# Altium footprint library PcbLib1.PcbLib: 18 footprints (part 1 of 2)
Each footprint in its own frame and in the unit in brackets; x right, y up, seen from the top. Pads: shape width x height; smd on the part's side, far side on the other; paste and mask are expansions set on the pad; w line width, h text height; cw(c..) or ccw(c..) is an arc to the next point about the centre after c.
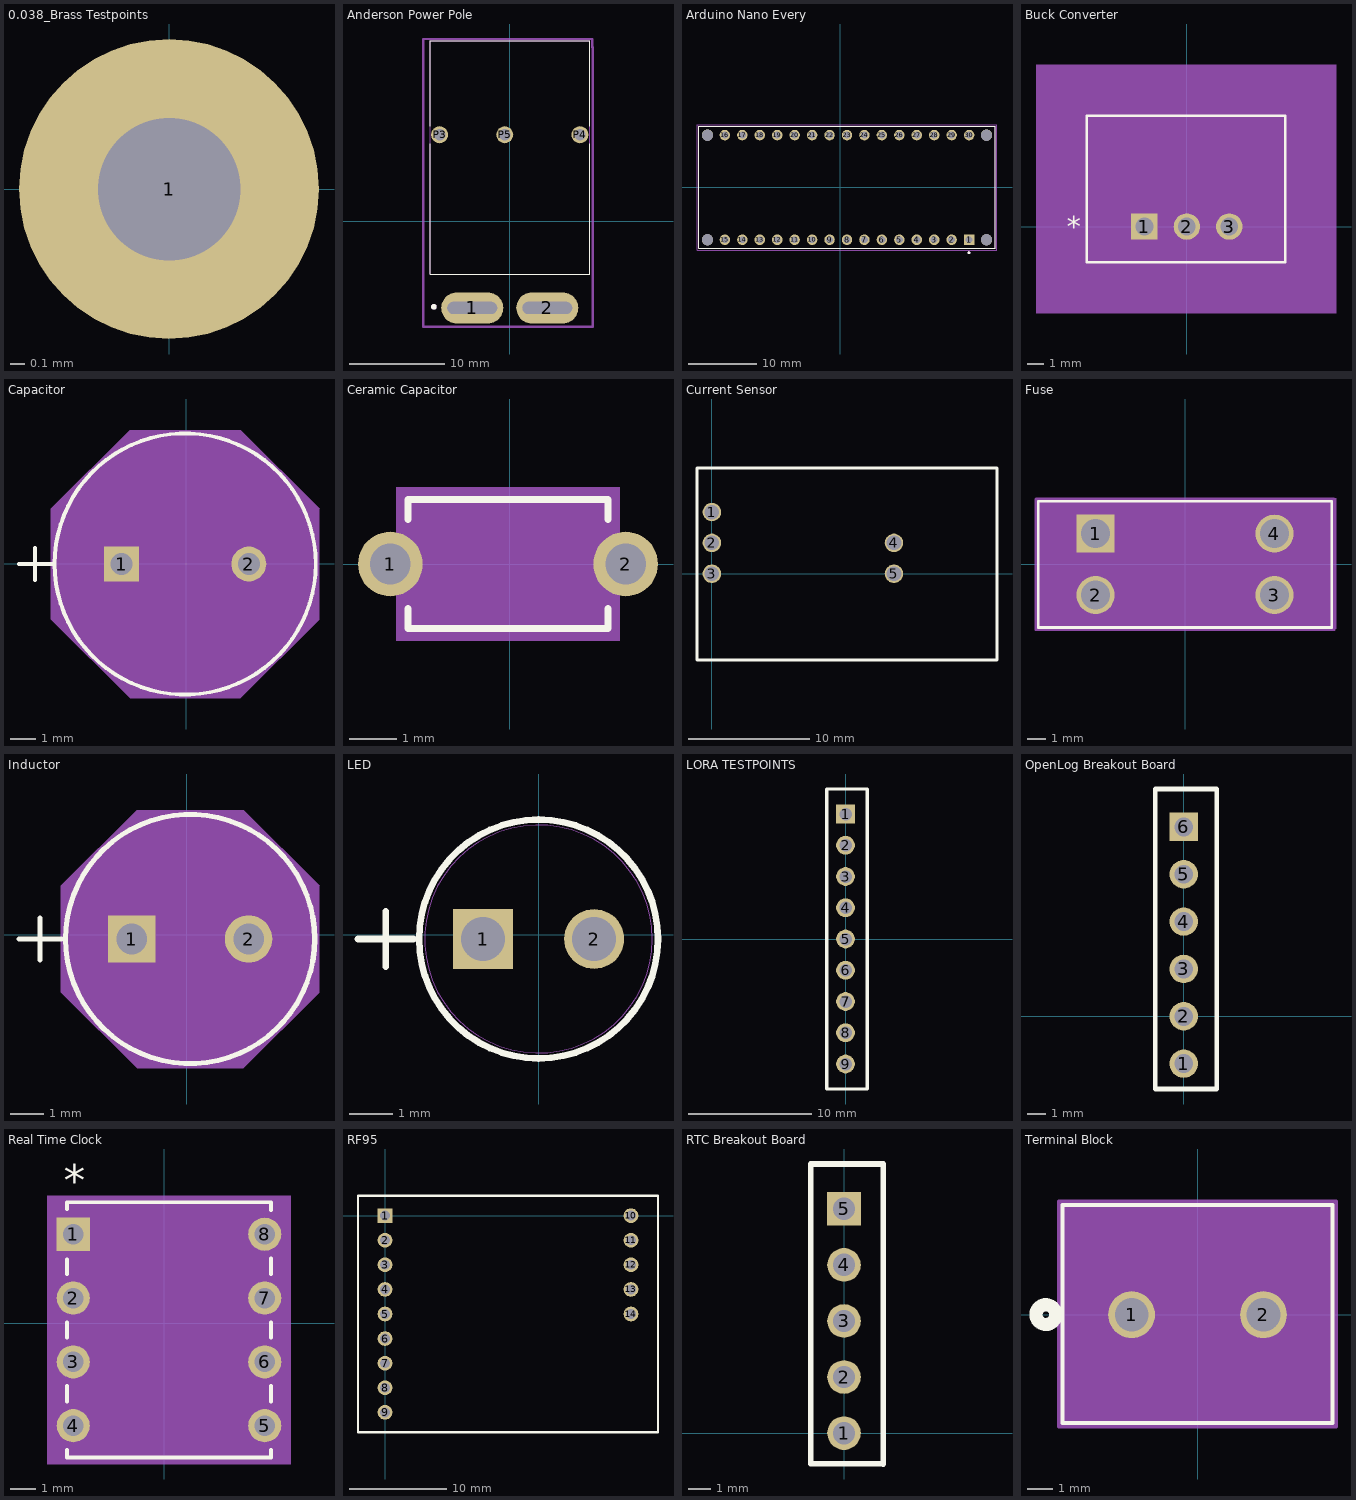
[diagram p0: the footprints below, top view; thin cyan lines are the x and y axes]

## 0.038_Brass Testpoints [mil]
pads (1):
  round 80 hole 38: 1(0,0)

## Anderson Power Pole [mm]
pads (5):
  oval 6.54x3.27 hole 1.27 slot 5.23 at 0 deg: 1(-3.95,-9.12) 2(3.95,-9.12)
  round 1.8 hole 1.2: P3(-7.39,9.12) P4(7.39,9.12) P5(-0.53,9.12)
Top Overlay:
  circle w0.3: c-8,-9 r0.15
  lines w0.127: -8.4,8.18 -8.4,-5.58 8.4,-5.58 8.4,8.18 ; -8.4,10.03 -8.4,19.02 8.4,19.02 8.4,10.03
Mechanical 13:
  circle w0.3: c-8,-9 r0.15
  lines w0.127: -8.4,-5.58 8.4,-5.58 8.4,19.02 -8.4,19.02 -8.4,-5.58
Mechanical 15:
  lines w0.254: -9.1,-11.094 -9.1,19.2 8.7,19.2 8.7,18.342 ; -9,-11.1 -4.55,-11.1 4.35,-11.1 8.725,-11.1 8.725,18.317
3D body "ASMPR45-1X2-RK--3DModel-STEP-269445.STEP": height 14.11, standoff 0.01, extent -7.9,-9.62 8.4,18.98

## Arduino Nano Every [mil]
pads (34):
  rect 60x60 hole 40: 1(739.37,-300)
  round 60 hole 40: 2(639.37,-300) 3(539.37,-300) 4(439.37,-300) 5(339.37,-300) 6(239.37,-300) 7(139.37,-300) 8(39.37,-300) 9(-60.63,-300) 10(-160.63,-300) 11(-260.63,-300) 12(-360.63,-300) 13(-460.63,-300) 14(-560.63,-300) 15(-660.63,-300) 16(-660.63,300) 17(-560.63,300) 18(-460.63,300) 19(-360.63,300) 20(-260.63,300) 21(-160.63,300) 22(-60.63,300) 23(39.37,300) 24(139.37,300) 25(239.37,300) 26(339.37,300) 27(439.37,300) 28(539.37,300) 29(639.37,300) 30(739.37,300)
  round 65 hole 65 unplated: ""(-760.63,-300) ""(-760.63,300) ""(839.37,-300) ""(839.37,300)
Top Overlay:
  circle w7.87: c739.37,-374.02 r3.94
  lines w5: -810.63,-350 889.37,-350 889.37,350 -810.63,350 -810.63,-350
Mechanical 13:
  circle w7.87: c739.37,-374.02 r3.94
  lines w5: -810.63,-350 889.37,-350 889.37,350 -810.63,350 -810.63,-350
Mechanical 15:
  lines w1.97: -820.47,-359.84 899.21,-359.84 899.21,359.84 -820.47,359.84 -820.47,-359.84

## Buck Converter [mil]
pads (3):
  rect 62x62 hole 42 mask+0: 1(-100,0)
  round 62 hole 42 mask+0: 2(0,0) 3(100,0)
Top Overlay:
  lines w6: -235.47,-83.92 -235.47,261.08 231.53,261.08 231.53,-83.92 -235.47,-83.92
  text "*" at -282.97,-25 h50
Mechanical 5:
  region: 351.53,-203.92 -355.47,-203.92 -355.47,381.08 351.53,381.08
Mechanical 13:
  lines w1: -230.47,-78.92 -230.47,256.08 226.53,256.08 226.53,-78.92 -230.47,-78.92
  text "*" at -232.97,-25 h50
Mechanical 15:
  region: 236.53,-88.92 -240.47,-88.92 -240.47,266.08 236.53,266.08
  lines w6: -240.47,-88.92 236.53,-88.92 236.53,266.08 -240.47,266.08 -240.47,-88.92
3D body: height 10, standoff 0, extent -100,0 -90,10

## Capacitor [mil] "10uF,Polarized"
pads (2):
  rect 54x54 hole 34 mask+0: 1(-100.35,-0.54)
  round 54 hole 34 mask+0: 2(96.5,-0.54)
Top Overlay:
  circle w6: c-1.93,-0.54 r202
  lines w6: -258.93,-0.54 -208.93,-0.54 ; -233.93,-25.54 -233.93,24.46
Mechanical 13:
  circle w0: c-1.93,-0.54 r197
  lines w1: -258.93,-0.54 -208.93,-0.54 ; -233.93,-25.54 -233.93,24.46
Mechanical 15:
  region: -208.93,84.69 -87.16,206.46 83.31,206.46 205.07,84.69 205.07,-85.78 83.31,-207.54 -87.16,-207.54 -208.93,-85.78
  lines w1: -208.93,-85.78 -87.16,-207.54 83.31,-207.54 205.07,-85.78 205.07,84.69 83.31,206.46 -87.16,206.46 -208.93,84.69 -208.93,-85.78
3D body "CAP_106CKS450MLU_ILC.step": height 787.6, standoff -172.01, extent -198.93,-197.54 196.05,196.46

## Ceramic Capacitor [mil]
pads (2):
  round 54 hole 34 mask+0: 1(-100,0) 2(96.85,0)
Top Overlay:
  lines w6: -85.07,-37.22 -85.07,-54 81.93,-54 81.93,-37.22 ; -85.07,37.22 -85.07,54 81.93,54 81.93,37.22
Mechanical 5:
  region: 91.93,-64 -95.07,-64 -95.07,64 91.93,64
Mechanical 13:
  lines w1: -80.07,-49 76.93,-49 76.93,49 -80.07,49 -80.07,-49
Mechanical 15:
  region: 86.93,-59 -90.07,-59 -90.07,59 86.93,59
  lines w6: -90.07,-59 -90.07,59 86.93,59 86.93,-59 -90.07,-59
3D body "CAP_FG28_TDK.step": height 217.01, standoff -172.01, extent -122.42,-51.18 122.42,46.85

## Current Sensor [mil]
pads (5):
  round 60 hole 47.24 mask+0: 1(0,200)
  round 60 hole 47.24: 2(0,100) 3(0,0) 4(590.55,100) 5(590.55,0)
Top Overlay:
  lines w10: -48.38,-279.92 924.68,-279.92 924.68,342.96 -48.38,342.96 -48.38,-279.92

## Fuse [mil]
pads (4):
  rect 83x83 hole 63 mask+0: 1(-195,67)
  round 83 hole 63 mask+0: 2(-195,-67) 3(195,-67) 4(195,67)
Top Overlay:
  lines w6: -320,-137.5 -320,137.5 320,137.5 320,-137.5 -320,-137.5
Mechanical 13:
  lines w1: -315,-132.5 -315,132.5 315,132.5 315,-132.5 -315,-132.5
Mechanical 15:
  region: 329.17,-140.97 -320.83,-140.97 -320.83,144.03 329.17,144.03
  lines w6: -325,-142.5 325,-142.5 325,142.5 -325,142.5 -325,-142.5
3D body: height 10, standoff 0, extent -195,67 -185,77

## Inductor [mil]
pads (2):
  rect 56x56 hole 36 mask+0: 1(-65,-5)
  round 56 hole 36 mask+0: 2(73,-5)
Top Overlay:
  circle w6: c4,-5 r147
  lines w6: -198,-5 -148,-5 ; -173,-30 -173,20
Mechanical 13:
  circle w0: c4,-5 r142
  lines w1: -198,-5 -148,-5 ; -173,-30 -173,20
Mechanical 15:
  region: -148,57.59 -58.59,147 66.59,147 156,57.59 156,-67.59 66.59,-157 -58.59,-157 -148,-67.59
  lines w1: -148,-67.59 -148,57.59 -58.59,147 66.59,147 156,57.59 156,-67.59 66.59,-157 -58.59,-157 -148,-67.59
3D body "IND_BOURNS_RLB0712.step": height 433.62, standoff -177.99, extent -138.33,-146.87 146.02,136.87

## LED [mil]
pads (2):
  rect 54x54 hole 39.37 mask+0: 1(-50,-3.94)
  round 54 hole 39.37 mask+0: 2(50,-3.94)
Top Overlay:
  circle w6: c0,-3.94 r107.5
  lines w6: -162.5,-3.94 -112.5,-3.94 ; -137.5,-28.94 -137.5,21.06
Mechanical 13:
  circle w0: c0,-3.94 r102.5
  lines w1: -162.5,-3.94 -112.5,-3.94 ; -137.5,-28.94 -137.5,21.06

## LORA TESTPOINTS [mil]
pads (9):
  rect 60x60 hole 40: 1(0,400)
  round 60 hole 40: 2(0,300) 3(0,200) 4(0,100) 5(0,0) 6(0,-100) 7(0,-200) 8(0,-300) 9(0,-400)
Top Overlay:
  lines w10: -60.25,-480 69.68,-480 69.68,480 -60.25,480 -60.25,-480

## OpenLog Breakout Board [mil]
pads (6):
  round 60 hole 40: 1(0,-100) 2(0,0) 3(0,100) 4(0,200) 5(0,300)
  rect 60x60 hole 40: 6(0,400)
Top Overlay:
  lines w10: -60.25,-153.54 69.68,-153.54 69.68,480 -60.25,480 -60.25,-153.54

## Real Time Clock [mil]
pads (8):
  rect 52x52 hole 32 mask+0: 1(-142.52,139.37)
  round 52 hole 32 mask+0: 2(-142.52,39.37) 3(-142.52,-60.63) 4(-142.52,-160.63) 5(157.48,-160.63) 6(157.48,-60.63) 7(157.48,39.37) 8(157.48,139.37)
Top Overlay:
  lines w6: -152.52,-198.43 -152.52,-210.63 167.48,-210.63 167.48,-198.43 ; -152.52,-122.83 -152.52,-98.43 ; -152.52,-22.83 -152.52,1.57 ; -152.52,77.17 -152.52,100.27 ; -152.52,178.47 -152.52,189.37 167.48,189.37 167.48,177.17 ; 167.48,-122.83 167.48,-98.43 ; 167.48,-22.83 167.48,1.57 ; 167.48,77.17 167.48,101.57
  text "*" at -157.52,199.37 h50
Mechanical 5:
  region: 198.48,-220.63 -183.52,-220.63 -183.52,199.37 198.48,199.37
Mechanical 13:
  lines w0: -4.52,184.37 ccw(c7.48,184.37) 19.48,184.37
  lines w1: -158.52,-176.63 -147.52,-176.63 -147.52,-144.63 -158.52,-144.63 -158.52,-176.63 ; -158.52,-76.63 -147.52,-76.63 -147.52,-44.63 -158.52,-44.63 -158.52,-76.63 ; -158.52,23.37 -147.52,23.37 -147.52,55.37 -158.52,55.37 -158.52,23.37 ; -158.52,123.37 -147.52,123.37 -147.52,155.37 -158.52,155.37 -158.52,123.37 ; -147.52,-205.63 -147.52,184.37 162.48,184.37 162.48,-205.63 -147.52,-205.63 ; 162.48,-176.63 173.48,-176.63 173.48,-144.63 162.48,-144.63 162.48,-176.63 ; 162.48,-76.63 173.48,-76.63 173.48,-44.63 162.48,-44.63 162.48,-76.63 ; 162.48,23.37 173.48,23.37 173.48,55.37 162.48,55.37 162.48,23.37 ; 162.48,123.37 173.48,123.37 173.48,155.37 162.48,155.37 162.48,123.37
  text "*" at -150.02,114.37 h50
Mechanical 15:
  region: 172.48,-196.63 193.48,-196.63 193.48,175.37 172.48,175.37 172.48,194.37 -157.52,194.37 -157.52,175.37 -178.52,175.37 -178.52,-196.63 -157.52,-196.63 -157.52,-215.63 172.48,-215.63
  lines w6: -178.52,-196.63 -157.52,-196.63 -157.52,-215.63 172.48,-215.63 172.48,-196.63 193.48,-196.63 193.48,175.37 172.48,175.37 172.48,194.37 -157.52,194.37 -157.52,175.37 -178.52,175.37 -178.52,-196.63
3D body "21-0043D_8_MXM.step": height 185.12, standoff -100, extent -147.52,-205.63 167.09,184.37

## RF95 [mil]
pads (14):
  rect 60x60 hole 40: 1(0,0)
  round 60 hole 40: 2(0,-100) 3(0,-200) 4(0,-300) 5(0,-400) 6(0,-500) 7(0,-600) 8(0,-700) 9(0,-800) 10(1000,0) 11(1000,-100) 12(1000,-200) 13(1000,-300) 14(1000,-400)
Top Overlay:
  lines w10: 440,80 570,80 ; 445,80 -110,80 -110,-880 1110,-880 1110,80 555,80
3D body: height 334.65, standoff 0, extent -110,-880 1110,80

## RTC Breakout Board [mil]
pads (5):
  round 60 hole 40: 1(0,0) 2(0,100) 3(0,200) 4(0,300)
  rect 60x60 hole 40: 5(0,400)
Top Overlay:
  lines w10: 69.68,-55.12 69.68,480 -59.06,480 -59.06,-54.8 -27.77,-54.8 37.2,-54.8 69.68,-54.8

## Terminal Block [mil]
pads (2):
  round 71 hole 51 mask+0: 1(-100,0) 2(100,0)
Top Overlay:
  circle w20: c-230,0 r15
  lines w6: -205,-164.45 -205,166.42 205,166.42 205,-164.45 -205,-164.45
Bottom Overlay:
  circle w20: c-230,0 r15
Mechanical 13:
  circle w20: c-100,75 r15
  lines w1: -200,-159.45 -200,161.42 200,161.42 200,-159.45 -200,-159.45
Mechanical 15:
  region: 210,171.42 -210,171.42 -210,-169.45 210,-169.45
  lines w6: -210,-169.45 210,-169.45 210,171.42 -210,171.42 -210,-169.45
3D body: height 10, standoff 0, extent -100,0 -90,10